# Altium integrated library Mapper3.IntLib: 1 symbol
Pins are listed as number, name and electrical type; pins without a type are passive.

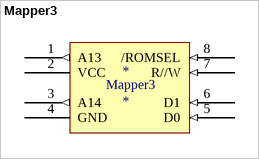
[diagram p0: symbol Mapper3]

## Mapper3
designator *
footprint SOP8
pins: 1 A13 (out), 2 VCC (power), 3 A14 (out), 4 GND (power), 5 D0 (in), 6 D1 (in), 7 R//W (in), 8 /ROMSEL (in)